# EAGLE library part WAVEFORM-MIXER-VCA-3364 (library XM8)
Xonik voltage controlled waveshape mixer with pulse cv output and two separate VCAs NB: not +/-15V compatible, use +/-12V only!
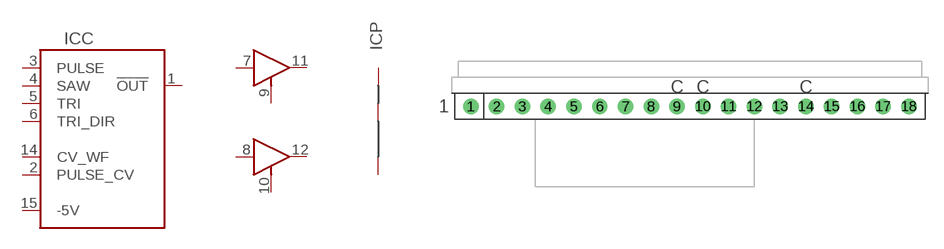
[diagram p21: symbol with the pads of XM8-WAVEFORM-MIXER-VCA-3364-V; footprint XM8-WAVEFORM-MIXER-VCA-3364-V]

Designator prefix IC; gates C=XM8-WAVEFORM-MIXER-NO-SUB-3364-V1.0 A1=XM8-AMP A2=XM8-AMP P=XM8-PWR

## WAVEFORM-MIXER-VCA-3364  [XM8-WAVEFORM-MIXER-VCA-3364-V]
1  C:!OUT
2  C:PULSE_CV
3  C:PULSE
4  C:SAW
5  C:TRI
6  C:TRI_DIR
7  A1:I
8  A2:I
9  A1:C
10  A2:C
11  A1:O
12  A2:O
14  C:CV_WF
15  C:-5V
16  P:-V  pwr
17  P:+V  pwr
18  P:AGND  pwr

## Footprint XM8-WAVEFORM-MIXER-VCA-3364-V (pad centres in mm)
Xonik 4 channel waveform mixer with CV generation (AS3364) and two separate VCAs, vertical mount
drill 1.016: 1 -20.32,0; 2 -17.78,0; 3 -15.24,0; 4 -12.7,0; 5 -10.16,0; 6 -7.62,0; 7 -5.08,0; 8 -2.54,0; 9 0,0; 10 2.54,0; 11 5.08,0; 12 7.62,0; 13 10.16,0; 14 12.7,0; 15 15.24,0; 16 17.78,0; 17 20.32,0; 18 22.86,0